# Altium schematic symbol library FCI 10118193-0001LF.SchLib: 1 symbol
Pins are listed as number, name and electrical type; pins without a type are passive.

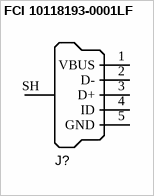
[diagram p0: symbol FCI 10118193-0001LF]

## FCI 10118193-0001LF
designator J?, comment USB Micro Type B (recommended if hand soldering)  (value not drawn)
Connector SMD-THD USB Micro Type B; Manufacturer 1: FCI; Manufacturer Part Number 1: 609-4616-2-ND; SCDType: undef; Package / Case: SMD/THD mid-mount; Supplier 1: Digi-Key
footprint USB_Micro-B-F
pins: 1 VBUS, 2 D-, 3 D+, 4 ID, 5 GND, SH Shell